# Altium footprint library ROKETPCB.PcbLib: 14 footprints
Each footprint in its own frame and in the unit in brackets; x right, y up, seen from the top. Pads: shape width x height; smd on the part's side, far side on the other; paste and mask are expansions set on the pad; w line width, h text height; cw(c..) or ccw(c..) is an arc to the next point about the centre after c.
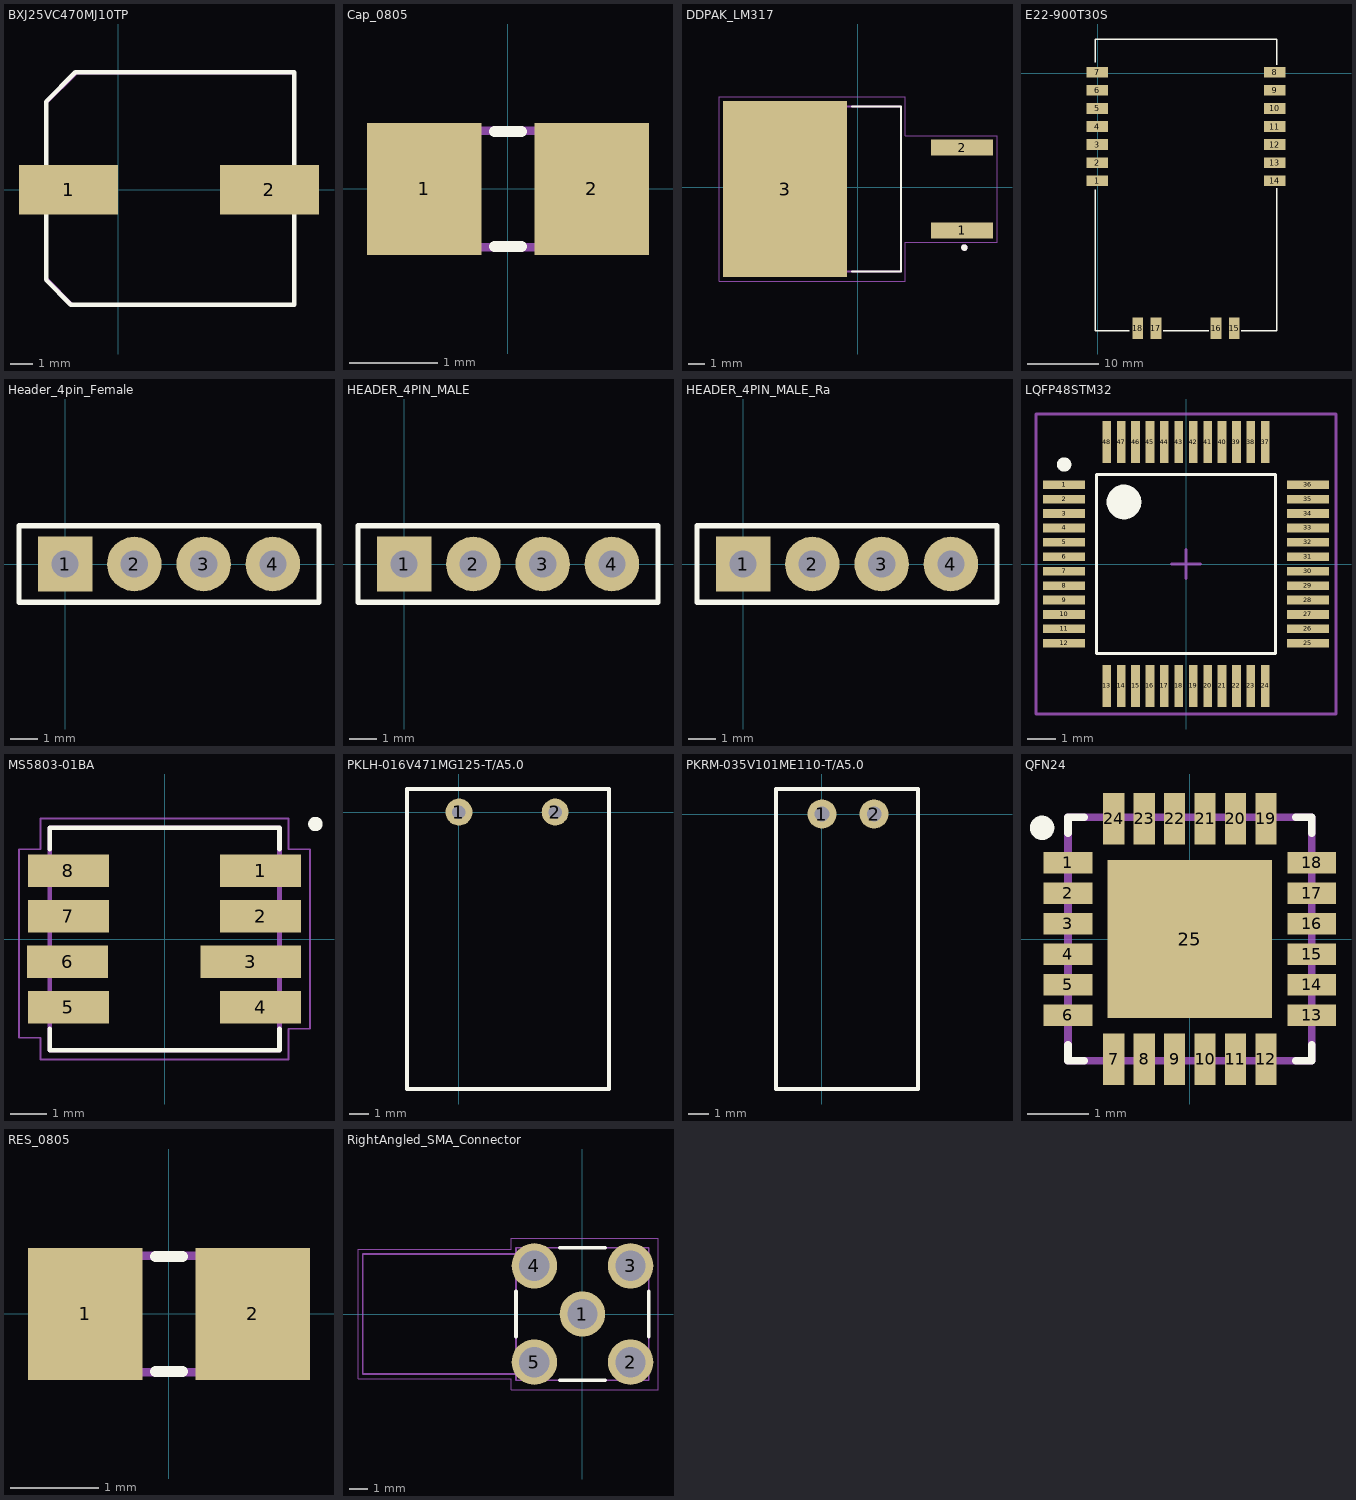
[diagram p0: the footprints below, top view; thin cyan lines are the x and y axes]

## BXJ25VC470MJ10TP [mm] "CAP_Elec_10x10"
height 10
pads (2):
  rect 4.4x2.2 smd: 1(-2.2,0) 2(6.7,0)
Top Overlay:
  lines w0.2: -3.2,-4 -2.1,-5.1 7.8,-5.1 7.8,5.2 -1.9,5.2 -3.2,3.9 -3.2,-4
Mechanical 1:
  lines w0.1: -3.2,-3.9 -1.95,-5.15 7.8,-5.15 7.8,5.15 -1.85,5.15 -3.2,3.8 -3.2,-3.9
3D body "User Library-CAP10x10_5.step": height 10.8, standoff 0, extent -3.35,-5.15 7.95,5.15

## Cap_0805 [mm] "MLCC_Capacitor"
height 1
pads (2):
  rect 1.3x1.5 smd: 1(-0.95,0) 2(0.95,0)
Top Overlay:
  lines w0.127: -0.15,-0.65 0.15,-0.65 ; -0.15,0.65 0.15,0.65
Mechanical 1:
  lines w0.1: -0.381,0.66 -1.054,0.66 -1.054,-0.66 -0.356,-0.66 ; 0.381,-0.66 1.061,-0.66 1.061,0.66 0.381,0.66
  lines w0.102: -0.381,0.66 0.381,0.66 ; -0.356,-0.66 0.381,-0.66
3D body "User Library-SMD CAPACITOR.SLDPRT": height 0.3, standoff -0.3, extent -1,-0.625 1,0.625

## DDPAK_LM317 [mm] "LM317D2T-TR"
height 5
pads (3):
  rect 3.79x0.99 smd: 1(6.4,-2.64) 2(6.4,2.44)
  rect 7.62x10.84 smd paste-6: 3(-4.48,-0.1)
Top Overlay:
  circle w0.2: c6.545,-3.7 r0.1
  lines w0.127: -0.357,-5.18 2.648,-5.18 2.648,4.98 -0.357,4.98
Top Paste:
  region: -5.205,-0.37 -3.755,-0.37 -3.755,-1.63 -5.205,-1.63
  region: -7.745,-0.37 -6.295,-0.37 -6.295,-1.63 -7.745,-1.63
  region: -2.665,-0.37 -1.215,-0.37 -1.215,-1.63 -2.665,-1.63
  region: -5.205,-2.17 -3.755,-2.17 -3.755,-3.43 -5.205,-3.43
  region: -7.745,-2.17 -6.295,-2.17 -6.295,-3.43 -7.745,-3.43
  region: -2.665,-2.17 -1.215,-2.17 -1.215,-3.43 -2.665,-3.43
  region: -5.205,-3.97 -3.755,-3.97 -3.755,-5.23 -5.205,-5.23
  region: -7.745,-3.97 -6.295,-3.97 -6.295,-5.23 -7.745,-5.23
  region: -2.665,-3.97 -1.215,-3.97 -1.215,-5.23 -2.665,-5.23
  region: -5.205,1.43 -3.755,1.43 -3.755,0.17 -5.205,0.17
  region: -7.745,1.43 -6.295,1.43 -6.295,0.17 -7.745,0.17
  region: -2.665,1.43 -1.215,1.43 -1.215,0.17 -2.665,0.17
  region: -5.205,3.23 -3.755,3.23 -3.755,1.97 -5.205,1.97
  region: -7.745,3.23 -6.295,3.23 -6.295,1.97 -7.745,1.97
  region: -2.665,3.23 -1.215,3.23 -1.215,1.97 -2.665,1.97
  region: -5.205,5.03 -3.755,5.03 -3.755,3.77 -5.205,3.77
  region: -7.745,5.03 -6.295,5.03 -6.295,3.77 -7.745,3.77
  region: -2.665,5.03 -1.215,5.03 -1.215,3.77 -2.665,3.77
Mechanical 13:
  circle w0.2: c6.545,-3.7 r0.1
  lines w0.127: -6.373,-5.18 2.648,-5.18 2.648,4.98 -6.373,4.98 -6.373,-5.18
Mechanical 15:
  lines w0.05: -8.54,-5.77 2.898,-5.77 2.898,-3.39 8.55,-3.39 8.55,3.19 2.898,3.19 2.898,5.57 -8.54,5.57 -8.54,-5.77
3D body "User Library-d2pak_a.step": height 4.5, standoff -0.03, extent -7.625,-5.2 7.381,5

## E22-900T30S [mm] "RF_Transceiver"
height 3
pads (18):
  rect 3x1.5 smd: 1(-0.1,-15.14) 2(-0.1,-12.6) 3(-0.1,-10.06) 4(-0.1,-7.52) 5(-0.1,-4.98) 6(-0.1,-2.44) 7(-0.1,0.1) 8(24.9,0.1) 9(24.9,-2.44) 10(24.9,-4.98) 11(24.9,-7.52) 12(24.9,-10.06) 13(24.9,-12.6) 14(24.9,-15.14)
  rect 1.5x3 smd: 15(19.17,-35.94) 16(16.63,-35.94) 17(8.17,-35.94) 18(5.63,-35.94)
Top Overlay:
  lines w0.2: -0.4,-16.4 -0.4,-36.3 4.4,-36.3 ; -0.4,1.5 -0.4,4.8 25.2,4.8 25.2,1.2 ; 9.2,-36.3 15.6,-36.3 ; 20.2,-36.3 25.2,-36.3 25.2,-16.2
3D body "User Library-E32_XXXT30S Ebyte.step": height 3.86, standoff 0.01, extent -0.1,-36 24.9,4.5

## Header_4pin_Female [mm]
height 5
pads (4):
  rect 2x2 hole 1: 1(0,0)
  round 2 hole 1: 2(2.54,0) 3(5.08,0) 4(7.62,0)
Top Overlay:
  lines w0.2: -1.69,-1.4 9.31,-1.4 9.31,1.4 -1.69,1.4 -1.69,-1.4
Top Solder:
  circle w0: c7.62,0 r0.861
  circle w0: c5.08,0 r0.861
  circle w0: c2.54,0 r0.861
  circle w0: c0,0 r0.861
Bottom Solder:
  circle w0: c7.62,0 r0.861
  circle w0: c5.08,0 r0.861
  circle w0: c2.54,0 r0.861
  circle w0: c0,0 r0.861
3D body "Header_4pin_Female.step": height 8.5, standoff -3, extent -1.52,-1.27 9.14,1.27

## HEADER_4PIN_MALE [mm]
height 5
pads (4):
  rect 2x2 hole 1: 1(0,0)
  round 2 hole 1: 2(2.54,0) 3(5.08,0) 4(7.62,0)
Top Overlay:
  lines w0.2: -1.69,-1.4 -1.69,1.4 9.31,1.4 9.31,-1.4 -1.69,-1.4
Top Solder:
  circle w0: c0,0 r0.861
  circle w0: c2.54,0 r0.861
  circle w0: c5.08,0 r0.861
  circle w0: c7.62,0 r0.861
Bottom Solder:
  circle w0: c0,0 r0.861
  circle w0: c2.54,0 r0.861
  circle w0: c5.08,0 r0.861
  circle w0: c7.62,0 r0.861
3D body "Header_4pin_Male.STEP": height 8.54, standoff -3, extent -1.27,-1.245 8.89,1.245

## HEADER_4PIN_MALE_Ra [mm]
height 5
pads (4):
  rect 2x2 hole 1: 1(0,0)
  round 2 hole 1: 2(2.54,0) 3(5.08,0) 4(7.62,0)
Top Overlay:
  lines w0.2: -1.69,-1.4 9.31,-1.4 9.31,1.4 -1.69,1.4 -1.69,-1.4
Top Solder:
  circle w0: c7.62,0 r0.861
  circle w0: c5.08,0 r0.861
  circle w0: c2.54,0 r0.861
  circle w0: c0,0 r0.861
Bottom Solder:
  circle w0: c7.62,0 r0.861
  circle w0: c5.08,0 r0.861
  circle w0: c2.54,0 r0.861
  circle w0: c0,0 r0.861
3D body "Header_4pin_Male_RA.STEP": height 2.52, standoff -3, extent -1.27,-0.62 8.89,9.51

## LQFP48STM32 [mm] "TSQFP, 48-Leads, Body 7,00x7,00mm, Pitch 0,50mm, IPC Medium Density"
height 1.6
pads (48):
  rect 1.45x0.3 smd mask+0.05: 1(-4.225,2.75) 2(-4.225,2.25) 3(-4.225,1.75) 4(-4.225,1.25) 5(-4.225,0.75) 6(-4.225,0.25) 7(-4.225,-0.25) 8(-4.225,-0.75) 9(-4.225,-1.25) 10(-4.225,-1.75) 11(-4.225,-2.25) 12(-4.225,-2.75) 25(4.225,-2.75) 26(4.225,-2.25) 27(4.225,-1.75) 28(4.225,-1.25) 29(4.225,-0.75) 30(4.225,-0.25) 31(4.225,0.25) 32(4.225,0.75) 33(4.225,1.25) 34(4.225,1.75) 35(4.225,2.25) 36(4.225,2.75)
  rect 0.3x1.45 smd mask+0.05: 13(-2.75,-4.225) 14(-2.25,-4.225) 15(-1.75,-4.225) 16(-1.25,-4.225) 17(-0.75,-4.225) 18(-0.25,-4.225) 19(0.25,-4.225) 20(0.75,-4.225) 21(1.25,-4.225) 22(1.75,-4.225) 23(2.25,-4.225) 24(2.75,-4.225) 37(2.75,4.225) 38(2.25,4.225) 39(1.75,4.225) 40(1.25,4.225) 41(0.75,4.225) 42(0.25,4.225) 43(-0.25,4.225) 44(-0.75,4.225) 45(-1.25,4.225) 46(-1.75,4.225) 47(-2.25,4.225) 48(-2.75,4.225)
Top Overlay:
  circle w0.25: c-4.225,3.45 r0.125
  circle w0.6: c-2.15,2.15 r0.3
  lines w0.1: -3.1,-3.1 -3.1,3.1 3.1,3.1 3.1,-3.1 -3.1,-3.1
Mechanical 3:
  lines w0.1: -0.5,0 0.5,0 ; 0,-0.5 0,0.5 ; -5.2,-5.2 -5.2,5.2 5.2,5.2 5.2,-5.2 -5.2,-5.2
3D body "LQFP48STM32.step": height 1.6, standoff 0, extent -4.5,-4.5 4.5,4.5

## MS5803-01BA [mm] "pressure sensor"
height 2
pads (8):
  rect 2.25x0.9 smd: 1(2.675,1.9) 2(2.675,0.633) 4(2.675,-1.9) 5(-2.675,-1.9) 6(-2.7,-0.633) 7(-2.675,0.633) 8(-2.675,1.9)
  rect 2.8x0.9 smd: 3(2.4,-0.633)
Top Overlay:
  circle w0.2: c4.2,3.2 r0.1
  lines w0.127: -3.2,-2.5 -3.2,-3.1 3.2,-3.1 3.2,-2.5 ; -3.2,2.5 -3.2,3.1 3.2,3.1 3.2,2.5
Mechanical 13:
  circle w0.2: c-2.675,1.9 r0.1
  lines w0.127: -3.2,-3.1 3.2,-3.1 3.2,3.1 -3.2,3.1 -3.2,-3.1
Mechanical 15:
  lines w0.05: -4.05,-2.75 -4.05,2.5 -3.45,2.5 -3.45,3.35 3.45,3.35 3.45,2.5 4.05,2.5 4.05,-2.5 3.45,-2.5 3.45,-3.35 -3.45,-3.35 -3.45,-2.75 -4.05,-2.75
3D body "User Library-MS5803-30BA.step": height 2.88, standoff -0.2, extent -3.2,-3.1 3.2,3.1

## PKLH-016V471MG125-T/A5.0 [mm] "CAP.EL.470uF 16V 10x12.5 5MM 105C L.ESR 3000H TB K"
pads (2):
  round 1.4 hole 0.7: 1(0,0) 2(5,0)
Top Overlay:
  lines w0.2: -2.7,-14.4 7.8,-14.4 7.8,1.2 -2.7,1.2 -2.7,-14.4
3D body "User Library-Cap electro 10x12_5x5_0mm RA.step": height 10.03, standoff -3.68, extent -2.525,-14.175 7.525,0.313

## PKRM-035V101ME110-T/A5.0 [mm] "CAP.EL.100uF 35V 6.3x11MM 5MM 105C TB KOSHIN"
pads (2):
  round 1.4 hole 0.7: 1(0,0) 2(2.5,0)
Top Overlay:
  lines w0.2: -2.2,-13.2 4.6,-13.2 4.6,1.2 -2.2,1.2 -2.2,-13.2
3D body "User Library-Cap electro 6_3x11x2_5mm RA.step": height 6.68, standoff -2.5, extent -1.975,-13.025 4.375,0.296

## QFN24 [mm] "MPU6050"
height 0.95
pads (25):
  rect 0.8x0.35 smd: 1(-2,1.25) 2(-2,0.75) 3(-2,0.25) 4(-2,-0.25) 5(-2,-0.75) 6(-2,-1.25) 13(2,-1.25) 14(2,-0.75) 15(2,-0.25) 16(2,0.25) 17(2,0.75) 18(2,1.25)
  rect 0.35x0.85 smd: 7(-1.25,-1.975) 8(-0.75,-1.975) 9(-0.25,-1.975) 10(0.25,-1.975) 11(0.75,-1.975) 12(1.25,-1.975) 19(1.25,1.975) 20(0.75,1.975) 21(0.25,1.975) 22(-0.25,1.975) 23(-0.75,1.975) 24(-1.25,1.975)
  rect 2.7x2.6 smd paste-2: 25(0,0)
Top Overlay:
  circle w0.2: c-2.425,1.825 r0.1
  lines w0.127: -2,-1.739 -2,-2 -1.739,-2 ; -2,1.739 -2,2 -1.739,2 ; 1.739,-2 2,-2 2,-1.739 ; 1.739,2 2,2 2,1.739
Mechanical 1:
  lines w0.127: -2,-2 2,-2 2,2 -2,2 -2,-2
3D body "User Library-mpu-6050_qfn-24-1.step": height 0.88, standoff -0.02, extent -2,-2.04 2.04,2

## RES_0805 [mm] "SMD Resistor"
height 1
pads (2):
  rect 1.3x1.5 smd: 1(-0.95,0) 2(0.95,0)
Top Overlay:
  lines w0.127: -0.15,-0.65 0.15,-0.65 ; -0.15,0.65 0.15,0.65
Mechanical 1:
  lines w0.1: -0.381,0.66 -1.054,0.66 -1.054,-0.66 -0.356,-0.66 ; 0.381,-0.66 1.061,-0.66 1.061,0.66 0.381,0.66
  lines w0.102: -0.381,0.66 0.381,0.66 ; -0.356,-0.66 0.381,-0.66
3D body "User Library-User Library-0805_Res1.step": height 0.8, standoff 0, extent -1.4,-0.625 1.4,0.625

## RightAngled_SMA_Connector [mm] "SMA_Connector"
height 9.5
pads (5):
  round 2.4 hole 1.6: 1(0,0) 2(2.54,-2.54) 3(2.54,2.54) 4(-2.54,2.54) 5(-2.54,-2.54)
Top Overlay:
  lines w0.2: -3.5,-1.2 -3.5,1.2 ; -1.2,-3.5 1.2,-3.5 ; -1.2,3.5 1.2,3.5 ; 3.5,-1.2 3.5,1.2
Mechanical 13:
  lines w0.1: -3.5,-3.165 -3.5,-3.5 3.5,-3.5 3.5,3.5 -3.5,3.5 -3.5,3.165 ; -3.5,-3.165 -3.5,3.165 ; -3.5,-3.165 -11.6,-3.165 -11.6,3.165 -3.5,3.165
Mechanical 15:
  lines w0.05: -11.85,-3.415 -11.85,3.415 -3.75,3.415 -3.75,3.99 3.99,3.99 3.99,-3.99 -3.75,-3.99 -3.75,-3.415 -11.85,-3.415
3D body "User Library-sma ra pcb mount molex.step": height 9.55, standoff -3.94, extent -11.633,-3.175 3.175,3.175